# Altium schematic symbol library Parts.SchLib: 3 symbols
Pins are listed as number, name and electrical type; pins without a type are passive.

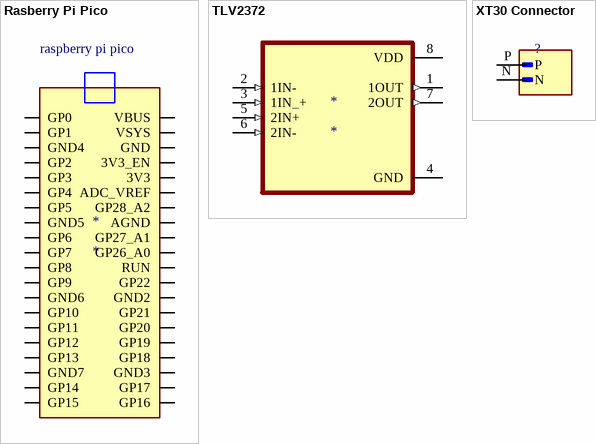
[diagram p0: symbols Rasberry Pi Pico to XT30 Connector]

## Rasberry Pi Pico
designator *
footprint Rasberry Pi Pico
pins: 3V3 (io), 3V3_EN (io), ADC_VREF (io), AGND (io), GND (io), GND2 (io), GND3 (io), GND4 (io), GND5 (io), GND6 (io), GND7 (io), GP0 (io), GP1 (io), GP2 (io), GP3 (io), GP4 (io), GP5 (io), GP6 (io), GP7 (io), GP8 (io), GP9 (io), GP10 (io), GP11 (io), GP12 (io), GP13 (io), GP14 (io), GP15 (io), GP16 (io), GP17 (io), GP18 (io), GP19 (io), GP20 (io), GP21 (io), GP22 (io), GP26_A0 (io), GP27_A1 (io), GP28_A2 (io), RUN (io), VBUS (io), VSYS (io)
text: raspberry pi pico

## TLV2372
designator *
footprint TLV2372 (Dual Op-Amp)
pins: 1 1OUT (out), 2 1IN- (in), 3 1IN_+ (in), 4 GND (power), 5 2IN+ (in), 6 2IN- (in), 7 2OUT (out), 8 VDD (power)

## XT30 Connector
designator ?
footprint XT30 Female Connector
pins: N, P